# EAGLE library part BIDIR_CONVERSION_MODULE (library various)
JY-MCU 5V 3V IIC UART SPI Level 4-Way Converter Module Adapter
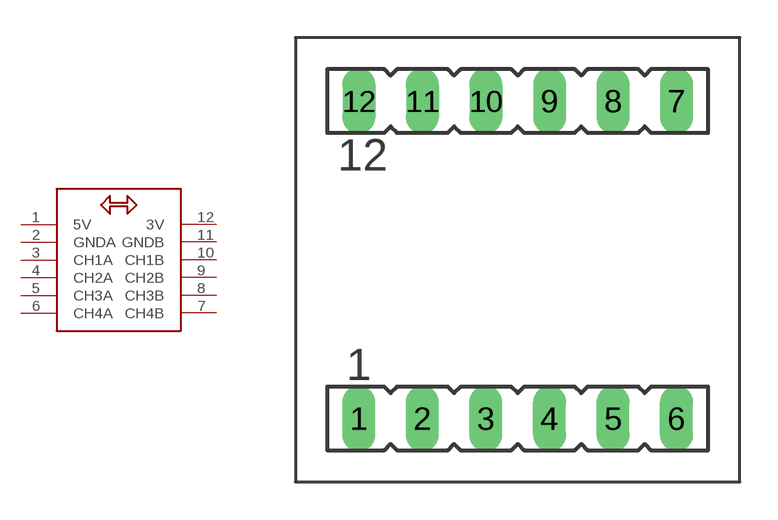
[diagram p0: symbol with the pads of BIDIR_CONVERSION_MODULE; footprint BIDIR_CONVERSION_MODULE]

Designator prefix -

## BIDIR_CONVERSION_MODULE  [BIDIR_CONVERSION_MODULE]
1  5V  pwr
2  GNDA  pwr
3  CH1A
4  CH2A
5  CH3A
6  CH4A
7  CH4B
8  CH3B
9  CH2B
10  CH1B
11  GNDB  pwr
12  3V  pwr

## Footprint BIDIR_CONVERSION_MODULE (pad centres in mm)
drill 0.813 long: 1 -6.35,-5.08; 2 -3.81,-5.08; 3 -1.27,-5.08; 4 1.27,-5.08; 5 3.81,-5.08; 6 6.35,-5.08; 7 6.35,7.62; 8 3.81,7.62; 9 1.27,7.62; 10 -1.27,7.62; 11 -3.81,7.62; 12 -6.35,7.62